# EAGLE library part 612X3420621 (library Wurth_Elektronik_Electromechanic_Wire_to_Board_Connectors_rev16a)
WR-BHD 2.54mm Male SMT Box Header High Temperature, 34 Pins=>Code : Con_WTB_BHD_2.54_Male_SMT_612X3420621 <http://katalog.we-online.de/media/thumbs2/eican/thb_Con_WTB_BHD_2.54_Male_SMT_6120xx20621_pf2.jpg> Details see: http://katalog.we-online.de/en/em/612_0xx_206_21 Created 2014-06-05, Karrer Zheng 2014 (C) Würth Elektronik
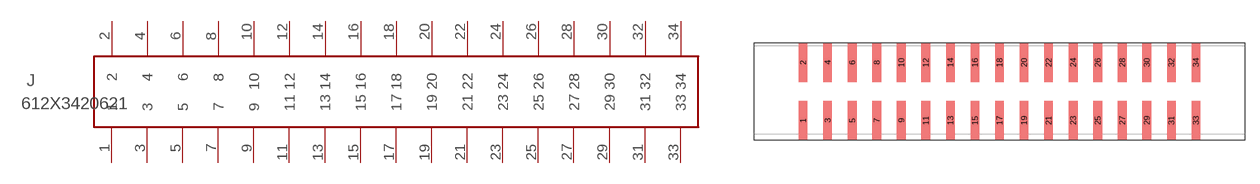
[diagram p107: symbol with the pads of 612X3420621; footprint 612X3420621]

Designator prefix J

## 612X3420621  [612X3420621]
1  1  pas
2  2  pas
3  3  pas
4  4  pas
5  5  pas
6  6  pas
7  7  pas
8  8  pas
9  9  pas
10  10  pas
11  11  pas
12  12  pas
13  13  pas
14  14  pas
15  15  pas
16  16  pas
17  17  pas
18  18  pas
19  19  pas
20  20  pas
21  21  pas
22  22  pas
23  23  pas
24  24  pas
25  25  pas
26  26  pas
27  27  pas
28  28  pas
29  29  pas
30  30  pas
31  31  pas
32  32  pas
33  33  pas
34  34  pas

## Footprint 612X3420621 (pad centres in mm)
WR-BHD-2.54mm Male SMT Box Header High Temperature, 34 pins
smd 0.9 x 4: 1 -15.24,-3; 2 -15.24,3; 3 -12.7,-3; 4 -12.7,3; 5 -10.16,-3; 6 -10.16,3; 7 -7.62,-3; 8 -7.62,3; 9 -5.08,-3; 10 -5.08,3; 11 -2.54,-3; 12 -2.54,3; 13 0,-3; 14 0,3; 15 2.54,-3; 16 2.54,3; 17 5.08,-3; 18 5.08,3; 19 7.62,-3; 20 7.62,3; 21 10.16,-3; 22 10.16,3; 23 12.7,-3; 24 12.7,3; 25 15.24,-3; 26 15.24,3; 27 17.78,-3; 28 17.78,3; 29 20.32,-3; 30 20.32,3; 31 22.86,-3; 32 22.86,3; 33 25.4,-3; 34 25.4,3